# EAGLE library part C64_CASETTE_EDGE (library commodore)
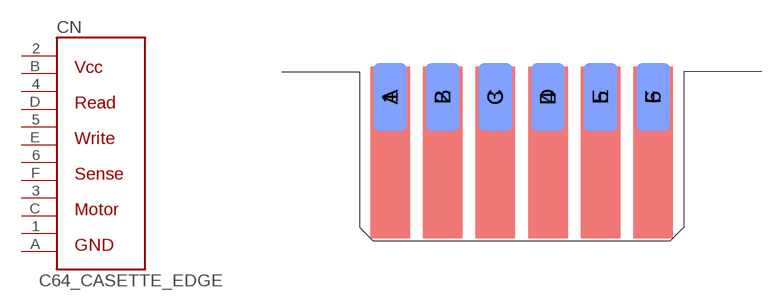
[diagram p25: symbol with the pads of C64_CASSETTE; footprint C64_CASSETTE]

Designator prefix CN

## C64_CASETTE_EDGE  [C64_CASSETTE]
1  GND1  pas
2  VCC1  pas
3  MOTOR1  in
4  READ1  out
5  WRITE1  in
6  SENSE1  out
A  GND2  pas
B  VCC2  pas
C  MOTOR2  in
D  READ2  pas
E  WRITE2  in
F  SENSE2  pas

## Footprint C64_CASSETTE (pad centres in mm)
smd 2.54 x 5.08: 1 -21.779,3.68; 2 -17.819,3.68; 3 -13.859,3.68; 4 -9.899,3.68; 5 -5.939,3.68; 6 -1.979,3.68
smd 2.54 x 5.08 bottom: A -21.779,3.68; B -17.819,3.68; C -13.859,3.68; D -9.899,3.68; E -5.939,3.68; F -1.979,3.68